# Altium footprint library Diod.PcbLib: 392 footprints (part 25 of 25)
Each footprint in its own frame and in the unit in brackets; x right, y up, seen from the top. Pads: shape width x height; smd on the part's side, far side on the other; paste and mask are expansions set on the pad; w line width, h text height; cw(c..) or ccw(c..) is an arc to the next point about the centre after c.
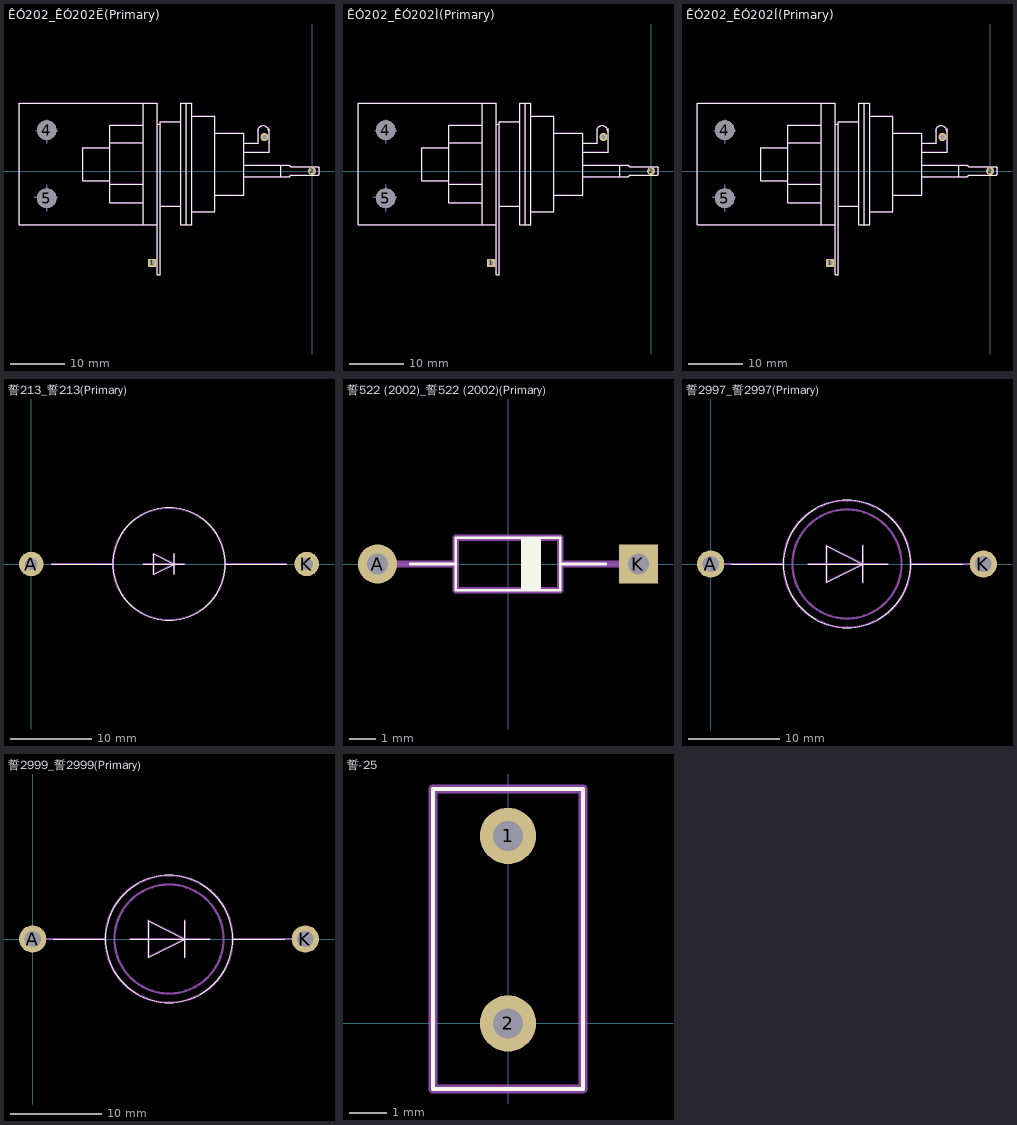
[diagram p24: the footprints below, top view; thin cyan lines are the x and y axes]

## ÊÓ202_ÊÓ202Ë(Primary) [mm]
pads (5):
  rect 1.5x1.5 hole 0.8: 1(-29.375,-16.875)
  round 1.5 hole 0.8: 2(0,0) UE(-8.75,6.25)
  round 3.6 hole 3.6 unplated: 4(-48.75,7.5) 5(-48.75,-5)
Top Overlay:
  lines w0.1: -37.211,-2.413 -31.115,-2.413 ; -37.211,4.191 -37.211,-1.778 ; -37.084,5.207 -31.115,5.207 ; -28.448,-9.906 -30.988,-9.906 ; -27.94,-6.477 -24.13,-6.477 -24.13,9.017 -27.94,9.017 -27.94,8.509 ; -22.098,-7.493 -17.907,-7.493 -17.907,10.033 -22.098,10.033 ; -17.907,-4.445 -12.573,-4.445 -12.573,6.985 -17.907,6.985 ; -12.573,-1.016 -5.715,-1.016 ; -12.573,1.016 -5.715,1.016 ; -12.573,3.429 -7.874,3.429 -7.874,7.747 ; -12.573,5.08 -9.906,5.08 -9.906,7.747 ; -10.006,7.289 cw(c-8.99,7.287) -7.974,7.287 ; -37.211,-1.778 -42.164,-1.778 -42.164,4.318 -37.211,4.318 -37.211,8.382 -30.988,8.382 ; -37.211,-1.778 -37.211,-5.842 -30.988,-5.842 ; -30.988,-9.906 -53.848,-9.906 -53.848,12.446 -51.308,12.446 -30.988,12.446 ; -30.988,-9.906 -30.988,-5.842 ; -30.988,-5.842 -30.988,8.382 ; -30.988,8.382 -30.988,12.446 ; -30.988,12.446 -28.448,12.446 -28.448,8.636 ; -28.448,8.636 -28.448,-19.05 -27.94,-19.05 -27.94,8.636 -28.448,8.636 ; -23.114,-9.906 -23.114,12.446 ; -23.114,-9.906 -23.114,12.446 ; -23.114,-9.906 -22.098,-9.906 -22.098,12.446 -23.114,12.446 ; -23.114,-9.906 -24.13,-9.906 -24.13,12.446 -23.114,12.446 ; -5.715,-1.016 -5.715,1.016 ; -5.715,-1.016 -4.191,-1.016 -3.937,-0.762 1.143,-0.762 1.27,-0.635 1.27,0.635 1.143,0.762 -3.937,0.762 -4.191,1.016 -5.715,1.016
Mechanical 1:
  circle w0.25: c0.003,-0.03 r0.463
  circle w0.25: c0.003,-0.03 r0.463
  lines w0.25: -51.054,-4.826 -46.736,-4.826 ; -50.8,7.366 -46.736,7.366 ; -48.768,-7.366 -48.768,-2.54 ; -48.768,5.08 -48.768,9.398 ; -37.211,-2.413 -31.115,-2.413 ; -37.211,4.191 -37.211,-1.778 ; -37.084,5.207 -31.115,5.207 ; -28.448,-9.906 -30.988,-9.906 ; -27.94,-6.477 -24.13,-6.477 -24.13,9.017 -27.94,9.017 -27.94,8.509 ; -22.098,-7.493 -17.907,-7.493 -17.907,10.033 -22.098,10.033 ; -17.907,-4.445 -12.573,-4.445 -12.573,6.985 -17.907,6.985 ; -12.573,-1.016 -5.715,-1.016 ; -12.573,1.016 -5.715,1.016 ; -12.573,3.429 -7.874,3.429 -7.874,7.747 ; -12.573,5.08 -9.906,5.08 -9.906,7.747 ; -10.006,7.289 cw(c-8.99,7.287) -7.974,7.287 ; -37.211,-1.778 -42.164,-1.778 -42.164,4.318 -37.211,4.318 -37.211,8.382 -30.988,8.382 ; -37.211,-1.778 -37.211,-5.842 -30.988,-5.842 ; -30.988,-9.906 -53.848,-9.906 -53.848,12.446 -51.308,12.446 -30.988,12.446 ; -30.988,-9.906 -30.988,-5.842 ; -30.988,-5.842 -30.988,8.382 ; -30.988,8.382 -30.988,12.446 ; -30.988,12.446 -28.448,12.446 -28.448,8.636 ; -28.448,8.636 -28.448,-19.05 -27.94,-19.05 -27.94,8.636 -28.448,8.636 ; -23.114,-9.906 -23.114,12.446 ; -23.114,-9.906 -23.114,12.446 ; -23.114,-9.906 -22.098,-9.906 -22.098,12.446 -23.114,12.446 ; -23.114,-9.906 -24.13,-9.906 -24.13,12.446 -23.114,12.446 ; -5.715,-1.016 -5.715,1.016 ; -5.715,-1.016 -4.191,-1.016 -3.937,-0.762 1.143,-0.762 1.27,-0.635 1.27,0.635 1.143,0.762 -3.937,0.762 -4.191,1.016 -5.715,1.016

## ÊÓ202_ÊÓ202Ì(Primary) [mm]
pads (5):
  rect 1.5x1.5 hole 0.8: 1(-29.375,-16.875)
  round 1.5 hole 0.8: 2(0,0) UE(-8.75,6.25)
  round 3.6 hole 3.6 unplated: 4(-48.75,7.5) 5(-48.75,-5)
Top Overlay:
  lines w0.1: -37.211,-2.413 -31.115,-2.413 ; -37.211,4.191 -37.211,-1.778 ; -37.084,5.207 -31.115,5.207 ; -28.448,-9.906 -30.988,-9.906 ; -27.94,-6.477 -24.13,-6.477 -24.13,9.017 -27.94,9.017 -27.94,8.509 ; -22.098,-7.493 -17.907,-7.493 -17.907,10.033 -22.098,10.033 ; -17.907,-4.445 -12.573,-4.445 -12.573,6.985 -17.907,6.985 ; -12.573,-1.016 -5.715,-1.016 ; -12.573,1.016 -5.715,1.016 ; -12.573,3.429 -7.874,3.429 -7.874,7.747 ; -12.573,5.08 -9.906,5.08 -9.906,7.747 ; -10.006,7.289 cw(c-8.99,7.287) -7.974,7.287 ; -37.211,-1.778 -42.164,-1.778 -42.164,4.318 -37.211,4.318 -37.211,8.382 -30.988,8.382 ; -37.211,-1.778 -37.211,-5.842 -30.988,-5.842 ; -30.988,-9.906 -53.848,-9.906 -53.848,12.446 -51.308,12.446 -30.988,12.446 ; -30.988,-9.906 -30.988,-5.842 ; -30.988,-5.842 -30.988,8.382 ; -30.988,8.382 -30.988,12.446 ; -30.988,12.446 -28.448,12.446 -28.448,8.636 ; -28.448,8.636 -28.448,-19.05 -27.94,-19.05 -27.94,8.636 -28.448,8.636 ; -23.114,-9.906 -23.114,12.446 ; -23.114,-9.906 -23.114,12.446 ; -23.114,-9.906 -22.098,-9.906 -22.098,12.446 -23.114,12.446 ; -23.114,-9.906 -24.13,-9.906 -24.13,12.446 -23.114,12.446 ; -5.715,-1.016 -5.715,1.016 ; -5.715,-1.016 -4.191,-1.016 -3.937,-0.762 1.143,-0.762 1.27,-0.635 1.27,0.635 1.143,0.762 -3.937,0.762 -4.191,1.016 -5.715,1.016
Mechanical 1:
  circle w0.25: c0.003,-0.03 r0.463
  circle w0.25: c0.003,-0.03 r0.463
  lines w0.25: -51.054,-4.826 -46.736,-4.826 ; -50.8,7.366 -46.736,7.366 ; -48.768,-7.366 -48.768,-2.54 ; -48.768,5.08 -48.768,9.398 ; -37.211,-2.413 -31.115,-2.413 ; -37.211,4.191 -37.211,-1.778 ; -37.084,5.207 -31.115,5.207 ; -28.448,-9.906 -30.988,-9.906 ; -27.94,-6.477 -24.13,-6.477 -24.13,9.017 -27.94,9.017 -27.94,8.509 ; -22.098,-7.493 -17.907,-7.493 -17.907,10.033 -22.098,10.033 ; -17.907,-4.445 -12.573,-4.445 -12.573,6.985 -17.907,6.985 ; -12.573,-1.016 -5.715,-1.016 ; -12.573,1.016 -5.715,1.016 ; -12.573,3.429 -7.874,3.429 -7.874,7.747 ; -12.573,5.08 -9.906,5.08 -9.906,7.747 ; -10.006,7.289 cw(c-8.99,7.287) -7.974,7.287 ; -37.211,-1.778 -42.164,-1.778 -42.164,4.318 -37.211,4.318 -37.211,8.382 -30.988,8.382 ; -37.211,-1.778 -37.211,-5.842 -30.988,-5.842 ; -30.988,-9.906 -53.848,-9.906 -53.848,12.446 -51.308,12.446 -30.988,12.446 ; -30.988,-9.906 -30.988,-5.842 ; -30.988,-5.842 -30.988,8.382 ; -30.988,8.382 -30.988,12.446 ; -30.988,12.446 -28.448,12.446 -28.448,8.636 ; -28.448,8.636 -28.448,-19.05 -27.94,-19.05 -27.94,8.636 -28.448,8.636 ; -23.114,-9.906 -23.114,12.446 ; -23.114,-9.906 -23.114,12.446 ; -23.114,-9.906 -22.098,-9.906 -22.098,12.446 -23.114,12.446 ; -23.114,-9.906 -24.13,-9.906 -24.13,12.446 -23.114,12.446 ; -5.715,-1.016 -5.715,1.016 ; -5.715,-1.016 -4.191,-1.016 -3.937,-0.762 1.143,-0.762 1.27,-0.635 1.27,0.635 1.143,0.762 -3.937,0.762 -4.191,1.016 -5.715,1.016

## ÊÓ202_ÊÓ202Í(Primary) [mm]
pads (5):
  rect 1.5x1.5 hole 0.8: 1(-29.375,-16.875)
  round 1.5 hole 0.8: 2(0,0) UE(-8.75,6.25)
  round 3.6 hole 3.6 unplated: 4(-48.75,7.5) 5(-48.75,-5)
Top Overlay:
  lines w0.1: -37.211,-2.413 -31.115,-2.413 ; -37.211,4.191 -37.211,-1.778 ; -37.084,5.207 -31.115,5.207 ; -28.448,-9.906 -30.988,-9.906 ; -27.94,-6.477 -24.13,-6.477 -24.13,9.017 -27.94,9.017 -27.94,8.509 ; -22.098,-7.493 -17.907,-7.493 -17.907,10.033 -22.098,10.033 ; -17.907,-4.445 -12.573,-4.445 -12.573,6.985 -17.907,6.985 ; -12.573,-1.016 -5.715,-1.016 ; -12.573,1.016 -5.715,1.016 ; -12.573,3.429 -7.874,3.429 -7.874,7.747 ; -12.573,5.08 -9.906,5.08 -9.906,7.747 ; -10.006,7.289 cw(c-8.99,7.287) -7.974,7.287 ; -37.211,-1.778 -42.164,-1.778 -42.164,4.318 -37.211,4.318 -37.211,8.382 -30.988,8.382 ; -37.211,-1.778 -37.211,-5.842 -30.988,-5.842 ; -30.988,-9.906 -53.848,-9.906 -53.848,12.446 -51.308,12.446 -30.988,12.446 ; -30.988,-9.906 -30.988,-5.842 ; -30.988,-5.842 -30.988,8.382 ; -30.988,8.382 -30.988,12.446 ; -30.988,12.446 -28.448,12.446 -28.448,8.636 ; -28.448,8.636 -28.448,-19.05 -27.94,-19.05 -27.94,8.636 -28.448,8.636 ; -23.114,-9.906 -23.114,12.446 ; -23.114,-9.906 -23.114,12.446 ; -23.114,-9.906 -22.098,-9.906 -22.098,12.446 -23.114,12.446 ; -23.114,-9.906 -24.13,-9.906 -24.13,12.446 -23.114,12.446 ; -5.715,-1.016 -5.715,1.016 ; -5.715,-1.016 -4.191,-1.016 -3.937,-0.762 1.143,-0.762 1.27,-0.635 1.27,0.635 1.143,0.762 -3.937,0.762 -4.191,1.016 -5.715,1.016
Mechanical 1:
  circle w0.25: c0.003,-0.03 r0.463
  circle w0.25: c0.003,-0.03 r0.463
  lines w0.25: -51.054,-4.826 -46.736,-4.826 ; -50.8,7.366 -46.736,7.366 ; -48.768,-7.366 -48.768,-2.54 ; -48.768,5.08 -48.768,9.398 ; -37.211,-2.413 -31.115,-2.413 ; -37.211,4.191 -37.211,-1.778 ; -37.084,5.207 -31.115,5.207 ; -28.448,-9.906 -30.988,-9.906 ; -27.94,-6.477 -24.13,-6.477 -24.13,9.017 -27.94,9.017 -27.94,8.509 ; -22.098,-7.493 -17.907,-7.493 -17.907,10.033 -22.098,10.033 ; -17.907,-4.445 -12.573,-4.445 -12.573,6.985 -17.907,6.985 ; -12.573,-1.016 -5.715,-1.016 ; -12.573,1.016 -5.715,1.016 ; -12.573,3.429 -7.874,3.429 -7.874,7.747 ; -12.573,5.08 -9.906,5.08 -9.906,7.747 ; -10.006,7.289 cw(c-8.99,7.287) -7.974,7.287 ; -37.211,-1.778 -42.164,-1.778 -42.164,4.318 -37.211,4.318 -37.211,8.382 -30.988,8.382 ; -37.211,-1.778 -37.211,-5.842 -30.988,-5.842 ; -30.988,-9.906 -53.848,-9.906 -53.848,12.446 -51.308,12.446 -30.988,12.446 ; -30.988,-9.906 -30.988,-5.842 ; -30.988,-5.842 -30.988,8.382 ; -30.988,8.382 -30.988,12.446 ; -30.988,12.446 -28.448,12.446 -28.448,8.636 ; -28.448,8.636 -28.448,-19.05 -27.94,-19.05 -27.94,8.636 -28.448,8.636 ; -23.114,-9.906 -23.114,12.446 ; -23.114,-9.906 -23.114,12.446 ; -23.114,-9.906 -22.098,-9.906 -22.098,12.446 -23.114,12.446 ; -23.114,-9.906 -24.13,-9.906 -24.13,12.446 -23.114,12.446 ; -5.715,-1.016 -5.715,1.016 ; -5.715,-1.016 -4.191,-1.016 -3.937,-0.762 1.143,-0.762 1.27,-0.635 1.27,0.635 1.143,0.762 -3.937,0.762 -4.191,1.016 -5.715,1.016

## 誓213_誓213(Primary) [mm]
pads (2):
  round 3 hole 1.5: A(0,0) K(33.75,0)
Top Overlay:
  lines w0.1: 2.5,0 10,0 ; 13.75,0 18.75,0 ; 17.5,-1.25 17.5,1.25 ; 31.25,0 23.75,0 ; 10,0 cw(c16.875,0) 23.75,0 ; 10,0 ccw(c16.875,0) 23.75,0 ; 15,-1.25 17.5,0 15,1.25 15,-1.25
Mechanical 1:
  lines w0.25: 2.5,0 10,0 ; 13.75,0 18.75,0 ; 17.5,-1.25 17.5,1.25 ; 31.25,0 23.75,0 ; 10,0 cw(c16.875,0) 23.75,0 ; 10,0 ccw(c16.875,0) 23.75,0 ; 15,-1.25 17.5,0 15,1.25 15,-1.25

## 誓522 (2002)_誓522 (2002)(Primary) [mm]
pads (2):
  round 1.5 hole 0.8: A(-5,0)
  rect 1.5x1.5 hole 0.8: K(5,0)
Top Overlay:
  region: 0.5,-1 1.25,-1 1.25,1 0.5,1
  lines w0.1: -3.75,0 -2,0 ; 2,0 3.75,0 ; -2,-1 2,-1 2,1 -2,1 -2,-1
Mechanical 1:
  lines w0.25: -5,0 -2,0 ; 2,0 5,0 ; -2,0 -2,-1 2,-1 2,1 -2,1 -2,0

## 誓2997_誓2997(Primary) [mm]
pads (2):
  round 3 hole 1.8: A(0,0) K(30,0)
Top Overlay:
  lines w0.1: 2.25,0 8,0 ; 10.75,0 12.75,0 16.75,0 ; 16.75,-2 16.75,2 ; 19.5,0 16.75,0 ; 27.75,0 22,0 ; 8,0 cw(c15,0) 22,0 ; 8,0 ccw(c15,0) 22,0 ; 16.75,0 12.75,-2 12.75,2 16.75,0
Mechanical 1:
  lines w0.25: 0,0 8,0 ; 10.75,0 12.75,0 16.75,0 ; 16.75,-2 16.75,2 ; 19.5,0 16.75,0 ; 30,0 22,0 ; 8,0 cw(c15,0) 22,0 ; 8,0 ccw(c15,0) 22,0 ; 16.75,0 12.75,-2 12.75,2 16.75,0 ; 9,0 cw(c15,0) 21,0 cw(c15,0) 9,0

## 誓2999_誓2999(Primary) [mm]
pads (2):
  round 3 hole 1.8: A(0,0) K(30,0)
Top Overlay:
  lines w0.1: 2.25,0 8,0 ; 10.75,0 12.75,0 16.75,0 ; 16.75,-2 16.75,2 ; 19.5,0 16.75,0 ; 27.75,0 22,0 ; 8,0 cw(c15,0) 22,0 ; 8,0 ccw(c15,0) 22,0 ; 16.75,0 12.75,-2 12.75,2 16.75,0
Mechanical 1:
  lines w0.25: 0,0 8,0 ; 10.75,0 12.75,0 16.75,0 ; 16.75,-2 16.75,2 ; 19.5,0 16.75,0 ; 30,0 22,0 ; 8,0 cw(c15,0) 22,0 ; 8,0 ccw(c15,0) 22,0 ; 16.75,0 12.75,-2 12.75,2 16.75,0 ; 9,0 cw(c15,0) 21,0 cw(c15,0) 9,0

## 誓-25 [mm]
pads (2):
  round 1.5 hole 0.8: 1(0,5) 2(0,0)
Top Overlay:
  lines w0.1: -2,-1.75 -2,6.25 2,6.25 2,-1.75 -2,-1.75
Mechanical 1:
  lines w0.25: -2,-1.75 -2,6.25 2,6.25 2,-1.75 -2,-1.75